# Altium schematic symbol library D_TVS_UNI_USBLC6-2P6.Schlib: 1 symbol
Pins are listed as number, name and electrical type; pins without a type are passive.

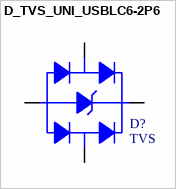
[diagram p0: symbol D_TVS_UNI_USBLC6-2P6]

## D_TVS_UNI_USBLC6-2P6
designator D?, comment TVS
pins: 1, 2, 3, 4, 5, 6